# Altium schematic symbol library SelfDrivingCar_Lib_Bittersweet.SchLib: 1 symbol
Pins are listed as number, name and electrical type; pins without a type are passive.

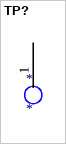
[diagram p0: symbol TP?]

## TP?
designator *
Test Point
pins: 1